# Altium footprint library PcbLib1.PcbLib: 9 footprints
Each footprint in its own frame and in the unit in brackets; x right, y up, seen from the top. Pads: shape width x height; smd on the part's side, far side on the other; paste and mask are expansions set on the pad; w line width, h text height; cw(c..) or ccw(c..) is an arc to the next point about the centre after c.

## AD7940 [mm]

## AD9689 [mm]

## ADCLK907 [mm]

## ADR421 [mm]

## BAL-00065 [mm]

## J9*2 [mm]

## SMA5 [mm]

## TCM1-83X+ [mm]

## TXS0108EPW [mm]